# Altium schematic symbol library AD9763.SchLib: 1 symbol
Pins are listed as number, name and electrical type; pins without a type are passive.

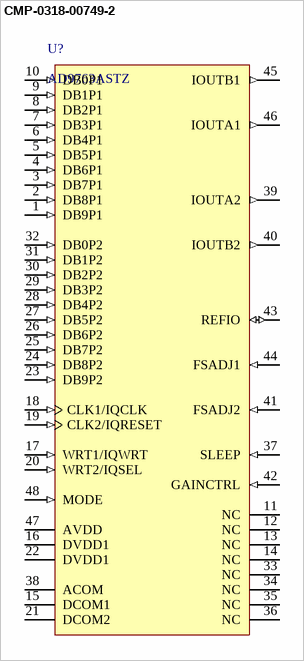
[diagram p0: symbol CMP-0318-00749-2]

## CMP-0318-00749-2
designator U?, comment AD9763ASTZ
Dual 10-Bit TxDAC+, 125 Msps, -40 to +85 degC, ST-48, Pb-Free, Tray; Manufacturer: Analog Devices; Generic Part Number: AD9763; Settling Time: 35ns; # DAC Outputs: 2; Resolution (Bits): 10; Max V+: 5.5V; Single Supply: Yes; Op Pwr Diss: 450mW; PackageDescription: 48-Pin Thin Quad Flat Pack 0.5 mm Pitch; ComponentLink4URL: http://www.analog.com/en/digital-to-analog-converters/da-converters/ad9763/products/product.html; ComponentLink1Description: Manufacturer URL; RevisionNote: Component URL fixed; ComponentLink1URL: http://www.analog.com/en/index.html; PackageVersion: revA; Mounting Technology: Surface Mount; ComponentLink3URL: http://www.analog.com/static/imported-files/packages/PKG_PDF/LQFP%28ST%29/ST_48.pdf; RoHS: Y; ComponentLink3Description: Package Specification; PartNumber: AD9763ASTZ; DatasheetVersion: Rev.G; ComponentLink4Description: Product URL; ComponentLink2URL: http://www.analog.com/static/imported-files/data_sheets/AD9763_9765_9767.pdf; ComponentLink2Description: Datasheet; Packing: Tray; PackageReference: ST-48
footprint ST-48_L (Thin QFP, 48-Leads, Body 7x7mm, Pitch 0.5mm, IPC High Density)
pins: 1 DB9P1 (in) "Data Bit Pin (Port 1)", 2 DB8P1 (in) "Data Bit Pin (Port 1)", 3 DB7P1 (in) "Data Bit Pin (Port 1)", 4 DB6P1 (in) "Data Bit Pin (Port 1)", 5 DB5P1 (in) "Data Bit Pin (Port 1)", 6 DB4P1 (in) "Data Bit Pin (Port 1)", 7 DB3P1 (in) "Data Bit Pin (Port 1)", 8 DB2P1 (in) "Data Bit Pin (Port 1)", 9 DB1P1 (in) "Data Bit Pin (Port 1)", 10 DB0P1 (in) "Data Bit Pin (Port 1)", 11 NC "No Connect", 12 NC "No Connect", 13 NC "No Connect", 14 NC "No Connect", 15 DCOM1 (power) "Digital Common", 16 DVDD1 (power) "Digital Supply Voltage", 17 WRT1/IQWRT (in) "Input Write Signal for PORT 1 (IQWRT in Interleaving Mode)", 18 CLK1/IQCLK (in) "Clock Input for DAC1 (IQCLK in Interleaving Mode)", 19 CLK2/IQRESET (in) "Clock Input for DAC2 (IQRESET in Interleaving Mode)", 20 WRT2/IQSEL (in) "Input Write Signal for PORT 2 (IQSEL in Interleaving Mode)", 21 DCOM2 (power) "Digital Common", 22 DVDD1 (power) "Digital Supply Voltage", 23 DB9P2 (in) "Data Bit Pin (Port 2)", 24 DB8P2 (in) "Data Bit Pin (Port 2)", 25 DB7P2 (in) "Data Bit Pin (Port 2)", 26 DB6P2 (in) "Data Bit Pin (Port 2)", 27 DB5P2 (in) "Data Bit Pin (Port 2)", 28 DB4P2 (in) "Data Bit Pin (Port 2)", 29 DB3P2 (in) "Data Bit Pin (Port 2)", 30 DB2P2 (in) "Data Bit Pin (Port 2)", 31 DB1P2 (in) "Data Bit Pin (Port 2)", 32 DB0P2 (in) "Data Bit Pin (Port 2)", 33 NC "No Connect", 34 NC "No Connect", 35 NC "No Connect", 36 NC "No Connect", 37 SLEEP (in) "Power-Down Control Input", 38 ACOM (power) "Analog Common", 39 IOUTA2 (out) "Port 2 Differential DAC Current Output", 40 IOUTB2 (out) "Port 2 Differential DAC Current Output", 41 FSADJ2 (in) "Full-Scale Current Output Adjust for DAC2", 42 GAINCTRL (in) "Master/Slave Resistor Control Mode", 43 REFIO (io) "Reference Input/Output", 44 FSADJ1 (in) "Full-Scale Current Output Adjust for DAC1", 45 IOUTB1 (out) "Port 1 Differential DAC Current Outputs", 46 IOUTA1 (out) "Port 1 Differential DAC Current Outputs", 47 AVDD (power) "Analog Supply Voltage", 48 MODE (in) "Mode Select (1 = dual port, 0 = interleaved)"